# Altium footprint library NANO_STM32F103.PcbLib: 35 footprints (part 3 of 3)
Each footprint in its own frame and in the unit in brackets; x right, y up, seen from the top. Pads: shape width x height; smd on the part's side, far side on the other; paste and mask are expansions set on the pad; w line width, h text height; cw(c..) or ccw(c..) is an arc to the next point about the centre after c.
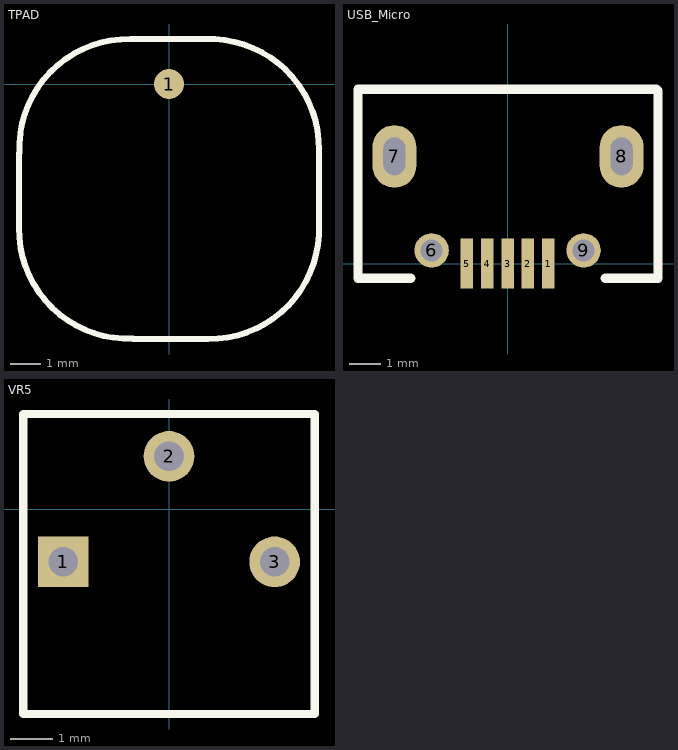
[diagram p2: the footprints below, top view; thin cyan lines are the x and y axes]

## TPAD [mm] "电容触摸按键"
pads (1):
  round 1 smd: 1(0,0)
Top Overlay:
  lines w0.2: -5,-2.302 -5,-4.792 ccw(c-1.35,-4.842) -1.198,-8.49 ; -4.99,-2.302 cw(c-1.342,-2.15) -1.292,1.5 1.198,1.5 ; -1.198,-8.5 1.299,-8.5 ccw(c1.35,-4.85) 4.997,-4.698 ; 1.198,1.497 cw(c1.35,-2.15) 5,-2.201 5,-4.698

## USB_Micro [mm]
pads (9):
  rect 0.4x1.6 smd: 1(1.3,0) 2(0.65,0) 3(0,0) 4(-0.65,0) 5(-1.3,0)
  round 1.1 hole 0.7: 6(-2.425,0.419) 9(2.425,0.419)
  oval 1.4x2 hole 0.7 slot 1.2 at 90 deg: 7(-3.612,3.422) 8(3.638,3.422)
Top Overlay:
  lines w0.3: -3.086,-0.473 -4.775,-0.473 -4.775,5.563 4.75,5.563 4.801,5.512 4.801,-0.474 3.112,-0.474
3D body "User Library-MicroUSB-B_Molex_105017-0001.STEP": height 2.66, standoff -0.64, extent -4.1,0.449 4.1,5.879
3D body: height 0.25, standoff 0, extent -2.413,3.048 -2.413,3.048

## VR5 [mm] "Thru-Hole; 3 Leads"
pads (3):
  rect 1.2x1.2 hole 0.7: 1(-2.5,-1.25)
  round 1.2 hole 0.7: 2(0,1.25) 3(2.5,-1.25)
Top Overlay:
  lines w0.2: -3.45,-4.85 3.45,-4.85 3.45,2.25 -3.45,2.25 -3.45,-4.85
3D body "3362p-1-104lf.stp": height 4.73, standoff -5.43, extent -3.348,-4.825 3.357,2.211